# EAGLE library part 5022442430 (library 5022442430)
MOLEX - 5022442430 - 0.5 FFC FOR LVDS ASSY 24CKT EMBSTP PKG Source: Datasheet <https://www.arrow.com/en/products/502244-2430/molex>
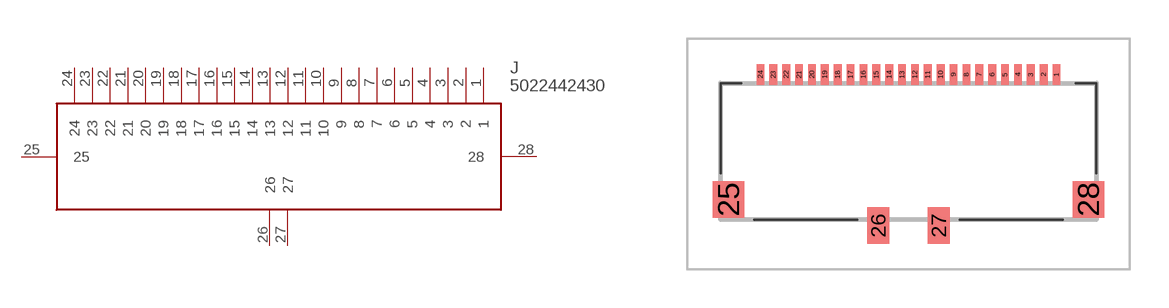
[diagram p0: symbol with the pads of 5022442430; footprint 5022442430]

Designator prefix J

## 5022442430 (Arrow_Part_Number: 5022442430; Arrow_Price-Stock: https://www.arrow.com/en/products/502244-2430/molex; Description: MOLEX - 5022442430 - 0.5 FFC FOR LVDS ASSY 24CKT EMBSTP PKG; Height: 2.33mm; Manufacturer_Name: Molex; Manufacturer_Part_Number: 5022442430)  [5022442430]
1  1
2  2
3  3
4  4
5  5
6  6
7  7
8  8
9  9
10  10
11  11
12  12
13  13
14  14
15  15
16  16
17  17
18  18
19  19
20  20
21  21
22  22
23  23
24  24
25  25
26  26
27  27
28  28

## Footprint 5022442430 (pad centres in mm)
5022442430-6
smd 0.3 x 0.8: 1 5.75,3.08; 2 5.25,3.08; 3 4.75,3.08; 4 4.25,3.08; 5 3.75,3.08; 6 3.25,3.08; 7 2.75,3.08; 8 2.25,3.08; 9 1.75,3.08; 10 1.25,3.08; 11 0.75,3.08; 12 0.25,3.08; 13 -0.25,3.08; 14 -0.75,3.08; 15 -1.25,3.08; 16 -1.75,3.08; 17 -2.25,3.08; 18 -2.75,3.08; 19 -3.25,3.08; 20 -3.75,3.08; 21 -4.25,3.08; 22 -4.75,3.08; 23 -5.25,3.08; 24 -5.75,3.08
smd 1.22 x 1.4: 25 -6.99,-1.77; 28 6.99,-1.77
smd 0.85 x 1.4: 26 -1.175,-2.78; 27 1.175,-2.78